# EAGLE library part ADP2301-TSOT23-6 (library Neel)
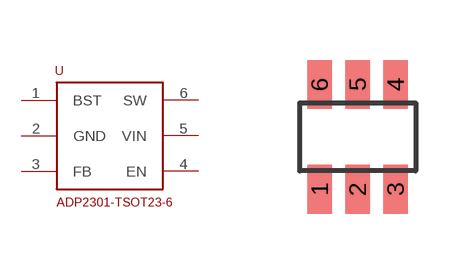
[diagram p16: symbol with the pads of TSOT-23-6; footprint TSOT-23-6]

Designator prefix -

## ADP2301-TSOT23-6  [TSOT-23-6]
1  BST
2  GND
3  FB
4  EN
5  VIN
6  SW

## Footprint TSOT-23-6 (pad centres in mm)
smd 0.62 x 1.22: 1 -0.95,-1.31; 2 0,-1.31; 3 0.95,-1.31; 4 0.95,1.31; 5 0,1.31; 6 -0.95,1.31